# Altium footprint library ZPWL.PcbLib: 168 footprints (part 11 of 11)
Each footprint in its own frame and in the unit in brackets; x right, y up, seen from the top. Pads: shape width x height; smd on the part's side, far side on the other; paste and mask are expansions set on the pad; w line width, h text height; cw(c..) or ccw(c..) is an arc to the next point about the centre after c.
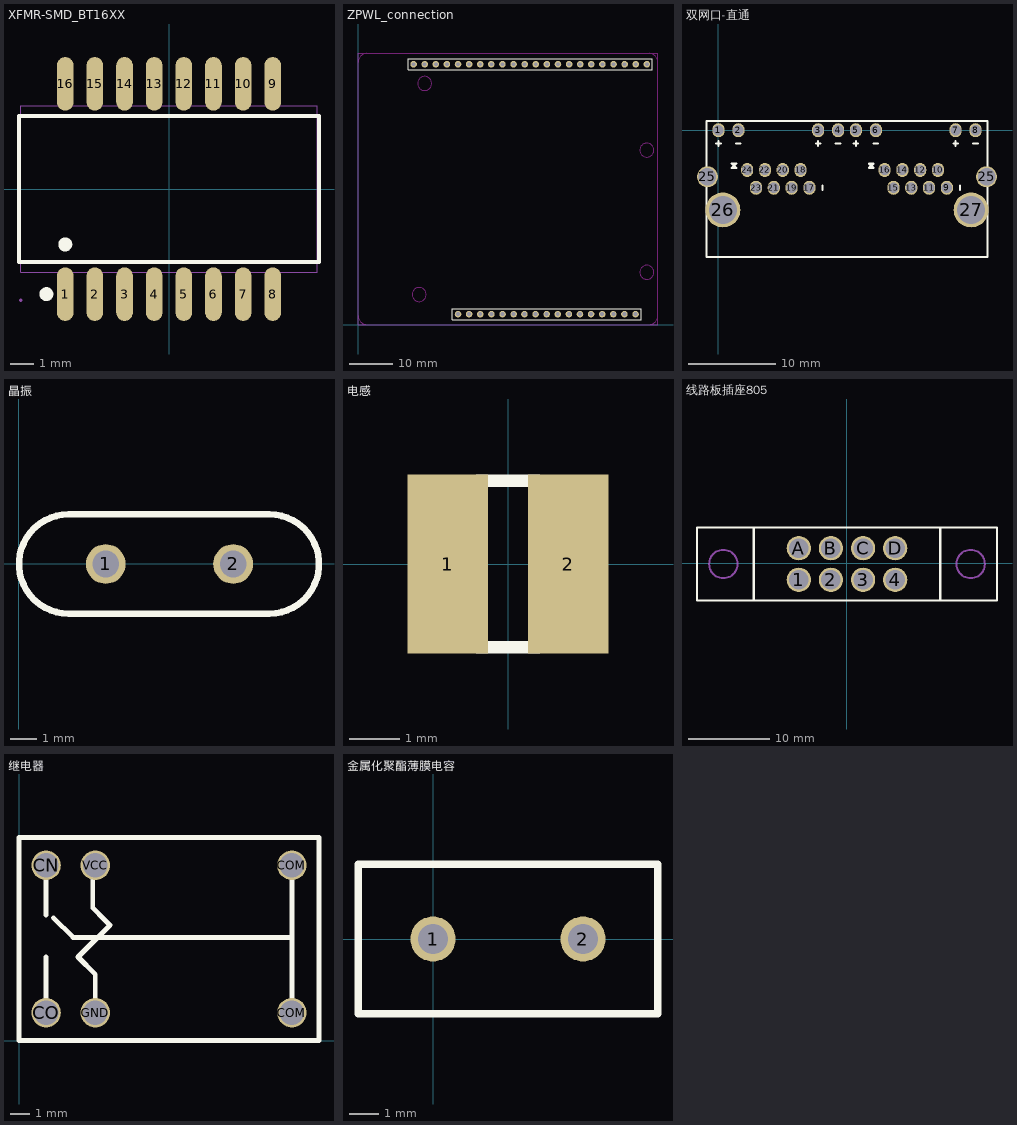
[diagram p10: the footprints below, top view; thin cyan lines are the x and y axes]

## XFMR-SMD_BT16XX [mil]
pads (16):
  oval 28x90.4 smd paste+2: 1(-175,-177.32) 2(-125,-177.32) 3(-75,-177.32) 4(-25,-177.32) 5(25,-177.32) 6(75,-177.32) 7(125,-177.32) 8(175,-177.32) 9(175,177.32) 10(125,177.32) 11(75,177.32) 12(25,177.32) 13(-25,177.32) 14(-75,177.32) 15(-125,177.32) 16(-175,177.32)
Top Overlay:
  circle w11.81: c-175,-93.5 r5.91
  circle w11.81: c-206.81,-177.32 r5.91
  lines w6: -253,-123.12 -253,123.13 253,123.13 253,-123.12 -253,-123.12
Mechanical 2:
  circle w11.81: c-175,-203.25 r5.91
Mechanical 6:
  lines w2: -250,-140 -250,140 250,140 250,-140 -250,-140
Mechanical 7:
  region: -185,-152.85 -185,-139.6 -165,-139.6 -165,-152.85
  region: -135,-152.85 -135,-139.6 -115,-139.6 -115,-152.85
  region: -85,-152.85 -85,-139.6 -65,-139.6 -65,-152.85
  region: -35,-152.85 -35,-139.6 -15,-139.6 -15,-152.85
  region: 15,-152.85 15,-139.6 35,-139.6 35,-152.85
  region: 65,-152.85 65,-139.6 85,-139.6 85,-152.85
  region: 115,-152.85 115,-139.6 135,-139.6 135,-152.85
  region: 165,-152.85 165,-139.6 185,-139.6 185,-152.85
  region: -185,152.86 -185,139.61 -165,139.61 -165,152.86
  region: -135,152.86 -135,139.61 -115,139.61 -115,152.86
  region: -85,152.86 -85,139.61 -65,139.61 -65,152.86
  region: -35,152.86 -35,139.61 -15,139.61 -15,152.86
  region: 15,152.86 15,139.61 35,139.61 35,152.86
  region: 65,152.86 65,139.61 85,139.61 85,152.86
  region: 115,152.86 115,139.61 135,139.61 135,152.86
  region: 165,152.86 165,139.61 185,139.61 185,152.86
Mechanical 8:
  region: -247.64,-187.5 -247.64,-188.47 -249.02,-189.86 -250.98,-189.86 -252.36,-188.47 -252.36,-187.5 -252.36,-186.52 -250.98,-185.13 -249.02,-185.13 -247.64,-186.52
Mechanical 9:
  region: -185,-187.5 -185,-152.46 -165,-152.46 -165,-187.5
  region: -135,-187.5 -135,-152.46 -115,-152.46 -115,-187.5
  region: -85,-187.5 -85,-152.46 -65,-152.46 -65,-187.5
  region: -35,-187.5 -35,-152.46 -15,-152.46 -15,-187.5
  region: 15,-187.5 15,-152.46 35,-152.46 35,-187.5
  region: 65,-187.5 65,-152.46 85,-152.46 85,-187.5
  region: 115,-187.5 115,-152.46 135,-152.46 135,-187.5
  region: 165,-187.5 165,-152.46 185,-152.46 185,-187.5
  region: -185,187.5 -185,152.47 -165,152.47 -165,187.5
  region: -135,187.5 -135,152.47 -115,152.47 -115,187.5
  region: -85,187.5 -85,152.47 -65,152.47 -65,187.5
  region: -35,187.5 -35,152.47 -15,152.47 -15,187.5
  region: 15,187.5 15,152.47 35,152.47 35,187.5
  region: 65,187.5 65,152.47 85,152.47 85,187.5
  region: 115,187.5 115,152.47 135,152.47 135,187.5
  region: 165,187.5 165,152.47 185,152.47 185,187.5
3D body "变压器.STEP": height 224.02, standoff 0, extent -250,-187.5 250,187.5

## ZPWL_connection [mm]
pads (39):
  round 1.5 hole 0.9: 1(22.86,2.362) 2(25.4,2.362) 3(27.94,2.362) 4(30.505,2.362) 5(33.045,2.362) 6(35.585,2.362) 7(38.049,2.362) 8(40.589,2.362) 9(43.129,2.362) 10(45.669,2.362) 11(48.209,2.362) 12(50.749,2.362) 13(53.289,2.362) 14(55.829,2.362) 15(58.369,2.362) 16(60.909,2.362) 17(63.449,2.362) 18(66.04,59.512) 19(63.5,59.512) 20(60.96,59.512) 21(58.42,59.512) 22(55.88,59.512) 23(53.34,59.512) 24(50.8,59.512) 25(48.26,59.512) 26(45.72,59.512) 27(43.18,59.512) 28(40.64,59.512) 29(38.1,59.512) 30(35.56,59.512) 31(33.02,59.512) 32(30.48,59.512) 33(27.94,59.512) 34(25.4,59.512) 35(22.86,59.512) 36(20.32,59.512) 37(17.78,59.512) 38(15.24,59.512) 39(12.7,59.512)
Top Overlay:
  lines w0.2: 11.43,58.242 24.13,58.242 54.61,58.242 67.31,58.242 67.31,60.782 54.61,60.782 44.45,60.782 34.29,60.782 24.13,60.782 11.43,60.782 11.43,58.242 ; 21.59,1.092 21.59,3.632 26.67,3.632 64.719,3.632 64.719,1.092 26.67,1.092 21.59,1.092
Keep-Out Layer:
  circle w0.254: c13.97,6.858 r1.6
  circle w0.254: c15.24,55.118 r1.6
  circle w0.254: c66.04,39.878 r1.6
  circle w0.254: c66.04,11.938 r1.6
  lines w0.254: -0.007,2.032 ccw(c2.045,2.045) 2.032,-0.007 ; -0.007,59.944 cw(c2.045,59.931) 2.032,61.983 ; 66.548,-0.007 ccw(c66.535,2.045) 68.587,2.032 ; 66.548,61.983 cw(c66.535,59.931) 68.587,59.944 ; 0,0 0,61.976 68.58,61.976 68.58,0 0,0

## 双网口-直通 [mm]
pads (28):
  oval 1.4x1.6 hole 1.2: 1(0,0) 2(2.29,0) 3(11.43,0) 4(13.72,0) 5(15.76,0) 6(18.05,0) 7(27.19,0) 8(29.48,0) 9(26.19,-6.6) 10(25.17,-4.56) 11(24.15,-6.6) 12(23.13,-4.56) 13(22.11,-6.6) 14(21.09,-4.56) 15(20.07,-6.6) 16(19.05,-4.56) 17(10.43,-6.6) 18(9.41,-4.56) 19(8.39,-6.6) 20(7.37,-4.56) 21(6.35,-6.6) 22(5.33,-4.56) 23(4.31,-6.6) 24(3.29,-4.56)
  round 2.4 hole 2: 25(-1.26,-5.34) 25(30.74,-5.34)
  round 4 hole 3.25: 26(0.515,-9.14) 27(28.965,-9.14)
Top Overlay:
  lines w0.254: -0.254,-1.524 0.254,-1.524 ; 0,-1.778 0,-1.27 ; 2.032,-4.318 1.524,-3.81 2.032,-3.81 1.524,-4.318 1.766,-4.318 2.044,-4.318 ; 2.032,-1.524 2.54,-1.524 ; 11.176,-1.524 11.684,-1.524 ; 11.43,-1.778 11.43,-1.27 ; 11.938,-6.858 11.938,-6.35 ; 13.462,-1.524 13.97,-1.524 ; 15.506,-1.524 16.014,-1.524 ; 15.76,-1.778 15.76,-1.27 ; 17.78,-4.318 17.272,-3.81 17.78,-3.81 17.272,-4.318 17.514,-4.318 17.792,-4.318 ; 17.792,-1.524 18.3,-1.524 ; 26.936,-1.524 27.444,-1.524 ; 27.19,-1.778 27.19,-1.27 ; 27.686,-6.858 27.686,-6.35 ; 29.222,-1.524 29.73,-1.524 ; -1.385,-14.54 -1.385,1.06 30.865,1.06 30.865,-14.54 -1.385,-14.54

## 晶振 [mil]
pads (2):
  round 60 hole 40: 1(130.94,0) 2(323.06,0)
Top Overlay:
  lines w10: 75,-74.8 cw(c75,0) 75,74.8 377.76,74.8 cw(c377.76,0) 377.76,-74.8 75,-74.8

## 电感 [mm]
pads (2):
  rect 1.6x3.556 smd: 1(-1.2,0) 2(1.2,0)
Top Overlay:
  lines w0.254: -0.641,-1.628 cw(c0,0) -1.732,-0.247 -1.732,-0.208 -1.524,0 -1.732,0.208 -1.732,0.247 cw(c0,0) -0.641,1.628 ; -0.6,-1.651 0.6,-1.651 ; -0.6,1.651 0.6,1.651 ; 0.641,-1.628 ccw(c0,0) 1.732,-0.247 1.732,-0.208 1.524,0 1.732,0.208 1.732,0.247 ccw(c0,0) 0.641,1.628
3D body "User Library-CD32-3_5x2_1.STEP": height 2.1, standoff 0, extent -1.724,-1.524 1.724,1.476

## 线路板插座805 [mm] "Pin8"
pads (8):
  round 3 hole 2.4: 1(-5.896,-2.039) 2(-1.936,-2.039) 3(2.024,-2.039) 4(5.984,-2.039) A(-5.896,1.861) B(-1.936,1.861) C(2.024,1.861) D(5.984,1.861)
Top Overlay:
  lines w0.254: -11.456,-4.589 -11.456,4.411 ; 11.544,-4.589 11.544,4.411 ; -18.456,-4.589 -18.456,4.411 18.544,4.411 18.544,-4.589 -18.456,-4.589
Mechanical 1:
  circle w0.254: c15.294,-0.089 r1.75
  circle w0.254: c-15.206,-0.089 r1.75

## 继电器 [mm]
pads (6):
  round 1.524 hole 1.27: CN(1.4,9.06) CO(1.4,1.44) COM(14.1,1.44) COM(14.1,9.06) GND(3.94,1.44) VCC(3.94,9.06)
Top Overlay:
  lines w0.254: 1.4,1.44 1.4,4.315 ; 1.4,6.48 1.4,9.06 ; 1.778,6.35 2.794,5.334 3.683,5.334 14.097,5.334 ; 3.81,9.06 3.81,6.858 4.445,6.223 4.699,5.969 3.048,4.318 3.94,3.426 3.94,1.44 ; 14.1,1.44 14.1,9.06 ; 0,0 0,10.5 15.5,10.5 15.5,0 0,0

## 金属化聚酯薄膜电容 [mil] "金属化聚酯薄膜电容"
pads (2):
  round 60 hole 40: 1(0,0) 2(200,0)
Top Overlay:
  lines w10: -100,-100 300,-100 300,100 -100,100 -100,-100